# EAGLE library part HCLP-250L (library IC)
Agilent HCPL-250L (HCPL-050L) Optocoupler, 3.3V, 1Mb/s
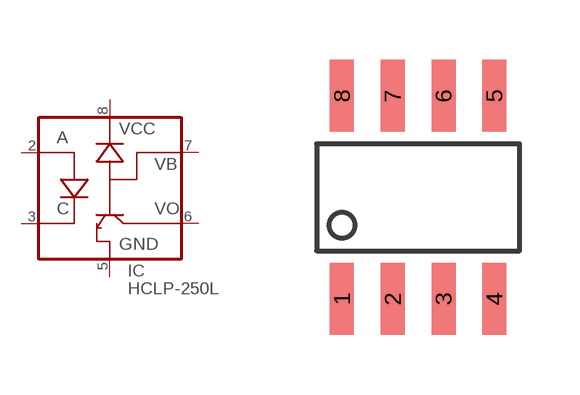
[diagram p138: symbol with the pads of SOIC8; footprint SOIC8]

Designator prefix IC

## HCLP-250L  [SOIC8]
2  A
3  C
5  GND  pwr
6  VO
7  VB
8  VCC  pwr

## Footprint SOIC8 (pad centres in mm)
8 pin SOIC 150-mil package
smd 0.6 x 1.8: 1 -1.905,-2.54; 2 -0.635,-2.54; 3 0.635,-2.54; 4 1.905,-2.54; 5 1.905,2.54; 6 0.635,2.54; 7 -0.635,2.54; 8 -1.905,2.54